# Altium schematic symbol library jlcpcb_resistors_basic.schlib: 291 symbols (part 5 of 5)
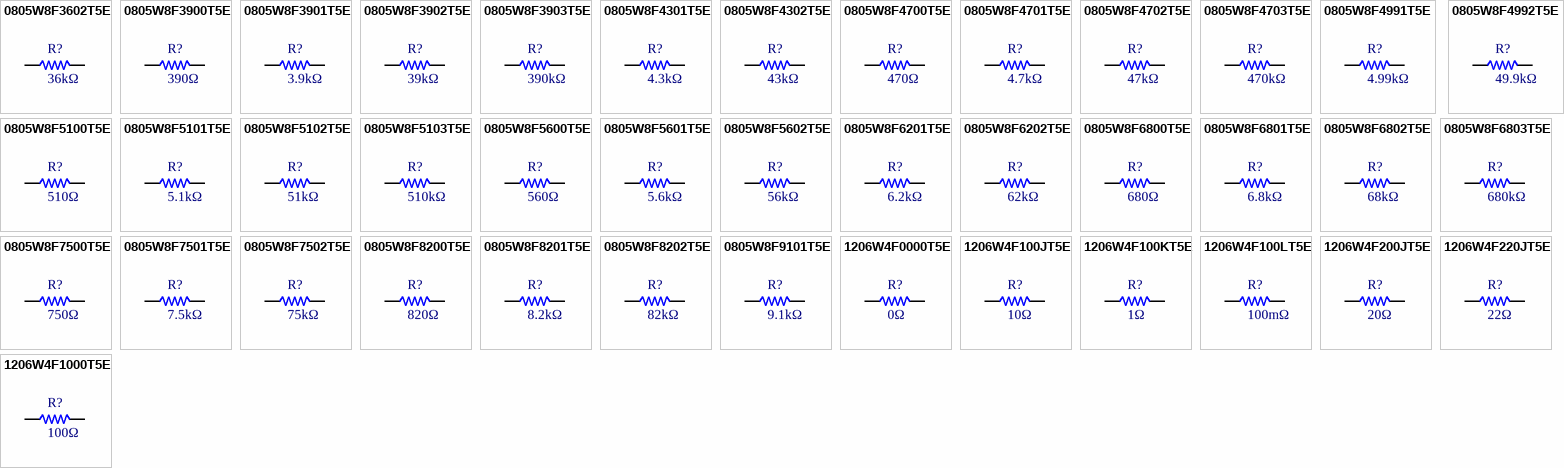
[diagram p11: symbols 0805W8F3602T5E to 1206W4F1000T5E]

## 0805W8F5100T5E
designator R?  Resistance: 510Ω  (hidden comment: *)
Resistor, 510Ω, ±1%, 125mW, 150V, ±100ppm/℃, -55℃~+155℃, SMD 0805; Manufacturer: Uniroyal; Manufacturer Part Number: 0805W8F5100T5E; Supplier 1: LCSC; Supplier Part Number 1: C17734; JLCPCB Part Number: C17734; Power Rating: 125mW; Category: Resistors; Package Size: 0805; JLCPCB Basic Part: Yes; Tolerance: ±1%; Voltage Rating: 150V; Temperature Coefficient: ±100ppm/℃; Temperature Rating: -55℃~+155℃; ComponentLink1Description: Datasheet; ComponentLink1URL: https://datasheet.lcsc.com/lcsc/2206010200_UNI-ROYAL-Uniroyal-Elec-0805W8F5100T5E_C17734.pdf; ComponentLink2Description: JLCPCB Part URL; ComponentLink2URL: https://jlcpcb.com/partdetail/C17734
footprint RES-0805 (0805 (2012M) Capacitor)
pins: 1, 2

## 0805W8F5101T5E
designator R?  Resistance: 5.1kΩ  (hidden comment: *)
Resistor, 5.1kΩ, ±1%, 125mW, 150V, ±100ppm/℃, -55℃~+155℃, SMD 0805; Manufacturer: Uniroyal; Manufacturer Part Number: 0805W8F5101T5E; Supplier 1: LCSC; Supplier Part Number 1: C27834; JLCPCB Part Number: C27834; Power Rating: 125mW; Category: Resistors; Package Size: 0805; JLCPCB Basic Part: Yes; Tolerance: ±1%; Voltage Rating: 150V; Temperature Coefficient: ±100ppm/℃; Temperature Rating: -55℃~+155℃; ComponentLink1Description: Datasheet; ComponentLink1URL: https://datasheet.lcsc.com/lcsc/2206010030_UNI-ROYAL-Uniroyal-Elec-0805W8F5101T5E_C27834.pdf; ComponentLink2Description: JLCPCB Part URL; ComponentLink2URL: https://jlcpcb.com/partdetail/C27834
footprint RES-0805 (0805 (2012M) Capacitor)
pins: 1, 2

## 0805W8F5102T5E
designator R?  Resistance: 51kΩ  (hidden comment: *)
Resistor, 51kΩ, ±1%, 125mW, 150V, ±100ppm/℃, -55℃~+155℃, SMD 0805; Manufacturer: Uniroyal; Manufacturer Part Number: 0805W8F5102T5E; Supplier 1: LCSC; Supplier Part Number 1: C17737; JLCPCB Part Number: C17737; Power Rating: 125mW; Category: Resistors; Package Size: 0805; JLCPCB Basic Part: Yes; Tolerance: ±1%; Voltage Rating: 150V; Temperature Coefficient: ±100ppm/℃; Temperature Rating: -55℃~+155℃; ComponentLink1Description: Datasheet; ComponentLink1URL: https://datasheet.lcsc.com/lcsc/2206010200_UNI-ROYAL-Uniroyal-Elec-0805W8F5102T5E_C17737.pdf; ComponentLink2Description: JLCPCB Part URL; ComponentLink2URL: https://jlcpcb.com/partdetail/C17737
footprint RES-0805 (0805 (2012M) Capacitor)
pins: 1, 2

## 0805W8F5103T5E
designator R?  Resistance: 510kΩ  (hidden comment: *)
Resistor, 510kΩ, ±1%, 125mW, 150V, ±100ppm/℃, -55℃~+155℃, SMD 0805; Manufacturer: Uniroyal; Manufacturer Part Number: 0805W8F5103T5E; Supplier 1: LCSC; Supplier Part Number 1: C17733; JLCPCB Part Number: C17733; Power Rating: 125mW; Category: Resistors; Package Size: 0805; JLCPCB Basic Part: Yes; Tolerance: ±1%; Voltage Rating: 150V; Temperature Coefficient: ±100ppm/℃; Temperature Rating: -55℃~+155℃; ComponentLink1Description: Datasheet; ComponentLink1URL: https://datasheet.lcsc.com/lcsc/2206010200_UNI-ROYAL-Uniroyal-Elec-0805W8F5103T5E_C17733.pdf; ComponentLink2Description: JLCPCB Part URL; ComponentLink2URL: https://jlcpcb.com/partdetail/C17733
footprint RES-0805 (0805 (2012M) Capacitor)
pins: 1, 2

## 0805W8F5600T5E
designator R?  Resistance: 560Ω  (hidden comment: *)
Resistor, 560Ω, ±1%, 125mW, 150V, ±100ppm/℃, -55℃~+155℃, SMD 0805; Manufacturer: Uniroyal; Manufacturer Part Number: 0805W8F5600T5E; Supplier 1: LCSC; Supplier Part Number 1: C28636; JLCPCB Part Number: C28636; Power Rating: 125mW; Category: Resistors; Package Size: 0805; JLCPCB Basic Part: Yes; Tolerance: ±1%; Voltage Rating: 150V; Temperature Coefficient: ±100ppm/℃; Temperature Rating: -55℃~+155℃; ComponentLink1Description: Datasheet; ComponentLink1URL: https://datasheet.lcsc.com/lcsc/2206010030_UNI-ROYAL-Uniroyal-Elec-0805W8F5600T5E_C28636.pdf; ComponentLink2Description: JLCPCB Part URL; ComponentLink2URL: https://jlcpcb.com/partdetail/C28636
footprint RES-0805 (0805 (2012M) Capacitor)
pins: 1, 2

## 0805W8F5601T5E
designator R?  Resistance: 5.6kΩ  (hidden comment: *)
Resistor, 5.6kΩ, ±1%, 125mW, 150V, ±100ppm/℃, -55℃~+155℃, SMD 0805; Manufacturer: Uniroyal; Manufacturer Part Number: 0805W8F5601T5E; Supplier 1: LCSC; Supplier Part Number 1: C4382; JLCPCB Part Number: C4382; Power Rating: 125mW; Category: Resistors; Package Size: 0805; JLCPCB Basic Part: Yes; Tolerance: ±1%; Voltage Rating: 150V; Temperature Coefficient: ±100ppm/℃; Temperature Rating: -55℃~+155℃; ComponentLink1Description: Datasheet; ComponentLink1URL: https://datasheet.lcsc.com/lcsc/2206010216_UNI-ROYAL-Uniroyal-Elec-0805W8F5601T5E_C4382.pdf; ComponentLink2Description: JLCPCB Part URL; ComponentLink2URL: https://jlcpcb.com/partdetail/C4382
footprint RES-0805 (0805 (2012M) Capacitor)
pins: 1, 2

## 0805W8F5602T5E
designator R?  Resistance: 56kΩ  (hidden comment: *)
Resistor, 56kΩ, ±1%, 125mW, 150V, ±100ppm/℃, -55℃~+155℃, SMD 0805; Manufacturer: Uniroyal; Manufacturer Part Number: 0805W8F5602T5E; Supplier 1: LCSC; Supplier Part Number 1: C17756; JLCPCB Part Number: C17756; Power Rating: 125mW; Category: Resistors; Package Size: 0805; JLCPCB Basic Part: Yes; Tolerance: ±1%; Voltage Rating: 150V; Temperature Coefficient: ±100ppm/℃; Temperature Rating: -55℃~+155℃; ComponentLink1Description: Datasheet; ComponentLink1URL: https://datasheet.lcsc.com/lcsc/2206010200_UNI-ROYAL-Uniroyal-Elec-0805W8F5602T5E_C17756.pdf; ComponentLink2Description: JLCPCB Part URL; ComponentLink2URL: https://jlcpcb.com/partdetail/C17756
footprint RES-0805 (0805 (2012M) Capacitor)
pins: 1, 2

## 0805W8F6201T5E
designator R?  Resistance: 6.2kΩ  (hidden comment: *)
Resistor, 6.2kΩ, ±1%, 125mW, 150V, ±100ppm/℃, -55℃~+155℃, SMD 0805; Manufacturer: Uniroyal; Manufacturer Part Number: 0805W8F6201T5E; Supplier 1: LCSC; Supplier Part Number 1: C17767; JLCPCB Part Number: C17767; Power Rating: 125mW; Category: Resistors; Package Size: 0805; JLCPCB Basic Part: Yes; Tolerance: ±1%; Voltage Rating: 150V; Temperature Coefficient: ±100ppm/℃; Temperature Rating: -55℃~+155℃; ComponentLink1Description: Datasheet; ComponentLink1URL: https://datasheet.lcsc.com/lcsc/2205311830_UNI-ROYAL-Uniroyal-Elec-0805W8F6201T5E_C17767.pdf; ComponentLink2Description: JLCPCB Part URL; ComponentLink2URL: https://jlcpcb.com/partdetail/C17767
footprint RES-0805 (0805 (2012M) Capacitor)
pins: 1, 2

## 0805W8F6202T5E
designator R?  Resistance: 62kΩ  (hidden comment: *)
Resistor, 62kΩ, ±1%, 125mW, 150V, ±100ppm/℃, -55℃~+155℃, SMD 0805; Manufacturer: Uniroyal; Manufacturer Part Number: 0805W8F6202T5E; Supplier 1: LCSC; Supplier Part Number 1: C17783; JLCPCB Part Number: C17783; Power Rating: 125mW; Category: Resistors; Package Size: 0805; JLCPCB Basic Part: Yes; Tolerance: ±1%; Voltage Rating: 150V; Temperature Coefficient: ±100ppm/℃; Temperature Rating: -55℃~+155℃; ComponentLink1Description: Datasheet; ComponentLink1URL: https://datasheet.lcsc.com/lcsc/2205311830_UNI-ROYAL-Uniroyal-Elec-0805W8F6202T5E_C17783.pdf; ComponentLink2Description: JLCPCB Part URL; ComponentLink2URL: https://jlcpcb.com/partdetail/C17783
footprint RES-0805 (0805 (2012M) Capacitor)
pins: 1, 2

## 0805W8F6800T5E
designator R?  Resistance: 680Ω  (hidden comment: *)
Resistor, 680Ω, ±1%, 125mW, 150V, ±100ppm/℃, -55℃~+155℃, SMD 0805; Manufacturer: Uniroyal; Manufacturer Part Number: 0805W8F6800T5E; Supplier 1: LCSC; Supplier Part Number 1: C17798; JLCPCB Part Number: C17798; Power Rating: 125mW; Category: Resistors; Package Size: 0805; JLCPCB Basic Part: Yes; Tolerance: ±1%; Voltage Rating: 150V; Temperature Coefficient: ±100ppm/℃; Temperature Rating: -55℃~+155℃; ComponentLink1Description: Datasheet; ComponentLink1URL: https://datasheet.lcsc.com/lcsc/2205311830_UNI-ROYAL-Uniroyal-Elec-0805W8F6800T5E_C17798.pdf; ComponentLink2Description: JLCPCB Part URL; ComponentLink2URL: https://jlcpcb.com/partdetail/C17798
footprint RES-0805 (0805 (2012M) Capacitor)
pins: 1, 2

## 0805W8F6801T5E
designator R?  Resistance: 6.8kΩ  (hidden comment: *)
Resistor, 6.8kΩ, ±1%, 125mW, 150V, ±100ppm/℃, -55℃~+155℃, SMD 0805; Manufacturer: Uniroyal; Manufacturer Part Number: 0805W8F6801T5E; Supplier 1: LCSC; Supplier Part Number 1: C17772; JLCPCB Part Number: C17772; Power Rating: 125mW; Category: Resistors; Package Size: 0805; JLCPCB Basic Part: Yes; Tolerance: ±1%; Voltage Rating: 150V; Temperature Coefficient: ±100ppm/℃; Temperature Rating: -55℃~+155℃; ComponentLink1Description: Datasheet; ComponentLink1URL: https://datasheet.lcsc.com/lcsc/2205311830_UNI-ROYAL-Uniroyal-Elec-0805W8F6801T5E_C17772.pdf; ComponentLink2Description: JLCPCB Part URL; ComponentLink2URL: https://jlcpcb.com/partdetail/C17772
footprint RES-0805 (0805 (2012M) Capacitor)
pins: 1, 2

## 0805W8F6802T5E
designator R?  Resistance: 68kΩ  (hidden comment: *)
Resistor, 68kΩ, ±1%, 125mW, 150V, ±100ppm/℃, -55℃~+155℃, SMD 0805; Manufacturer: Uniroyal; Manufacturer Part Number: 0805W8F6802T5E; Supplier 1: LCSC; Supplier Part Number 1: C17801; JLCPCB Part Number: C17801; Power Rating: 125mW; Category: Resistors; Package Size: 0805; JLCPCB Basic Part: Yes; Tolerance: ±1%; Voltage Rating: 150V; Temperature Coefficient: ±100ppm/℃; Temperature Rating: -55℃~+155℃; ComponentLink1Description: Datasheet; ComponentLink1URL: https://datasheet.lcsc.com/lcsc/2205311830_UNI-ROYAL-Uniroyal-Elec-0805W8F6802T5E_C17801.pdf; ComponentLink2Description: JLCPCB Part URL; ComponentLink2URL: https://jlcpcb.com/partdetail/C17801
footprint RES-0805 (0805 (2012M) Capacitor)
pins: 1, 2

## 0805W8F6803T5E
designator R?  Resistance: 680kΩ  (hidden comment: *)
Resistor, 680kΩ, ±1%, 125mW, 150V, ±100ppm/℃, -55℃~+155℃, SMD 0805; Manufacturer: Uniroyal; Manufacturer Part Number: 0805W8F6803T5E; Supplier 1: LCSC; Supplier Part Number 1: C17797; JLCPCB Part Number: C17797; Power Rating: 125mW; Category: Resistors; Package Size: 0805; JLCPCB Basic Part: Yes; Tolerance: ±1%; Voltage Rating: 150V; Temperature Coefficient: ±100ppm/℃; Temperature Rating: -55℃~+155℃; ComponentLink1Description: Datasheet; ComponentLink1URL: https://datasheet.lcsc.com/lcsc/2205311830_UNI-ROYAL-Uniroyal-Elec-0805W8F6803T5E_C17797.pdf; ComponentLink2Description: JLCPCB Part URL; ComponentLink2URL: https://jlcpcb.com/partdetail/C17797
footprint RES-0805 (0805 (2012M) Capacitor)
pins: 1, 2

## 0805W8F7500T5E
designator R?  Resistance: 750Ω  (hidden comment: *)
Resistor, 750Ω, ±1%, 125mW, 150V, ±100ppm/℃, -55℃~+155℃, SMD 0805; Manufacturer: Uniroyal; Manufacturer Part Number: 0805W8F7500T5E; Supplier 1: LCSC; Supplier Part Number 1: C17818; JLCPCB Part Number: C17818; Power Rating: 125mW; Category: Resistors; Package Size: 0805; JLCPCB Basic Part: Yes; Tolerance: ±1%; Voltage Rating: 150V; Temperature Coefficient: ±100ppm/℃; Temperature Rating: -55℃~+155℃; ComponentLink1Description: Datasheet; ComponentLink1URL: https://datasheet.lcsc.com/lcsc/2205311830_UNI-ROYAL-Uniroyal-Elec-0805W8F7500T5E_C17818.pdf; ComponentLink2Description: JLCPCB Part URL; ComponentLink2URL: https://jlcpcb.com/partdetail/C17818
footprint RES-0805 (0805 (2012M) Capacitor)
pins: 1, 2

## 0805W8F7501T5E
designator R?  Resistance: 7.5kΩ  (hidden comment: *)
Resistor, 7.5kΩ, ±1%, 125mW, 150V, ±100ppm/℃, -55℃~+155℃, SMD 0805; Manufacturer: Uniroyal; Manufacturer Part Number: 0805W8F7501T5E; Supplier 1: LCSC; Supplier Part Number 1: C17807; JLCPCB Part Number: C17807; Power Rating: 125mW; Category: Resistors; Package Size: 0805; JLCPCB Basic Part: Yes; Tolerance: ±1%; Voltage Rating: 150V; Temperature Coefficient: ±100ppm/℃; Temperature Rating: -55℃~+155℃; ComponentLink1Description: Datasheet; ComponentLink1URL: https://datasheet.lcsc.com/lcsc/2205311830_UNI-ROYAL-Uniroyal-Elec-0805W8F7501T5E_C17807.pdf; ComponentLink2Description: JLCPCB Part URL; ComponentLink2URL: https://jlcpcb.com/partdetail/C17807
footprint RES-0805 (0805 (2012M) Capacitor)
pins: 1, 2

## 0805W8F7502T5E
designator R?  Resistance: 75kΩ  (hidden comment: *)
Resistor, 75kΩ, ±1%, 125mW, 150V, ±100ppm/℃, -55℃~+155℃, SMD 0805; Manufacturer: Uniroyal; Manufacturer Part Number: 0805W8F7502T5E; Supplier 1: LCSC; Supplier Part Number 1: C17819; JLCPCB Part Number: C17819; Power Rating: 125mW; Category: Resistors; Package Size: 0805; JLCPCB Basic Part: Yes; Tolerance: ±1%; Voltage Rating: 150V; Temperature Coefficient: ±100ppm/℃; Temperature Rating: -55℃~+155℃; ComponentLink1Description: Datasheet; ComponentLink1URL: https://datasheet.lcsc.com/lcsc/2205311830_UNI-ROYAL-Uniroyal-Elec-0805W8F7502T5E_C17819.pdf; ComponentLink2Description: JLCPCB Part URL; ComponentLink2URL: https://jlcpcb.com/partdetail/C17819
footprint RES-0805 (0805 (2012M) Capacitor)
pins: 1, 2

## 0805W8F8200T5E
designator R?  Resistance: 820Ω  (hidden comment: *)
Resistor, 820Ω, ±1%, 125mW, 150V, ±100ppm/℃, -55℃~+155℃, SMD 0805; Manufacturer: Uniroyal; Manufacturer Part Number: 0805W8F8200T5E; Supplier 1: LCSC; Supplier Part Number 1: C17837; JLCPCB Part Number: C17837; Power Rating: 125mW; Category: Resistors; Package Size: 0805; JLCPCB Basic Part: Yes; Tolerance: ±1%; Voltage Rating: 150V; Temperature Coefficient: ±100ppm/℃; Temperature Rating: -55℃~+155℃; ComponentLink1Description: Datasheet; ComponentLink1URL: https://datasheet.lcsc.com/lcsc/2205311830_UNI-ROYAL-Uniroyal-Elec-0805W8F8200T5E_C17837.pdf; ComponentLink2Description: JLCPCB Part URL; ComponentLink2URL: https://jlcpcb.com/partdetail/C17837
footprint RES-0805 (0805 (2012M) Capacitor)
pins: 1, 2

## 0805W8F8201T5E
designator R?  Resistance: 8.2kΩ  (hidden comment: *)
Resistor, 8.2kΩ, ±1%, 125mW, 150V, ±100ppm/℃, -55℃~+155℃, SMD 0805; Manufacturer: Uniroyal; Manufacturer Part Number: 0805W8F8201T5E; Supplier 1: LCSC; Supplier Part Number 1: C17828; JLCPCB Part Number: C17828; Power Rating: 125mW; Category: Resistors; Package Size: 0805; JLCPCB Basic Part: Yes; Tolerance: ±1%; Voltage Rating: 150V; Temperature Coefficient: ±100ppm/℃; Temperature Rating: -55℃~+155℃; ComponentLink1Description: Datasheet; ComponentLink1URL: https://datasheet.lcsc.com/lcsc/2205311830_UNI-ROYAL-Uniroyal-Elec-0805W8F8201T5E_C17828.pdf; ComponentLink2Description: JLCPCB Part URL; ComponentLink2URL: https://jlcpcb.com/partdetail/C17828
footprint RES-0805 (0805 (2012M) Capacitor)
pins: 1, 2

## 0805W8F8202T5E
designator R?  Resistance: 82kΩ  (hidden comment: *)
Resistor, 82kΩ, ±1%, 125mW, 150V, ±100ppm/℃, -55℃~+155℃, SMD 0805; Manufacturer: Uniroyal; Manufacturer Part Number: 0805W8F8202T5E; Supplier 1: LCSC; Supplier Part Number 1: C17840; JLCPCB Part Number: C17840; Power Rating: 125mW; Category: Resistors; Package Size: 0805; JLCPCB Basic Part: Yes; Tolerance: ±1%; Voltage Rating: 150V; Temperature Coefficient: ±100ppm/℃; Temperature Rating: -55℃~+155℃; ComponentLink1Description: Datasheet; ComponentLink1URL: https://datasheet.lcsc.com/lcsc/2205311830_UNI-ROYAL-Uniroyal-Elec-0805W8F8202T5E_C17840.pdf; ComponentLink2Description: JLCPCB Part URL; ComponentLink2URL: https://jlcpcb.com/partdetail/C17840
footprint RES-0805 (0805 (2012M) Capacitor)
pins: 1, 2

## 0805W8F9101T5E
designator R?  Resistance: 9.1kΩ  (hidden comment: *)
Resistor, 9.1kΩ, ±1%, 125mW, 150V, ±100ppm/℃, -55℃~+155℃, SMD 0805; Manufacturer: Uniroyal; Manufacturer Part Number: 0805W8F9101T5E; Supplier 1: LCSC; Supplier Part Number 1: C17855; JLCPCB Part Number: C17855; Power Rating: 125mW; Category: Resistors; Package Size: 0805; JLCPCB Basic Part: Yes; Tolerance: ±1%; Voltage Rating: 150V; Temperature Coefficient: ±100ppm/℃; Temperature Rating: -55℃~+155℃; ComponentLink1Description: Datasheet; ComponentLink1URL: https://datasheet.lcsc.com/lcsc/2206010200_UNI-ROYAL-Uniroyal-Elec-0805W8F9101T5E_C17855.pdf; ComponentLink2Description: JLCPCB Part URL; ComponentLink2URL: https://jlcpcb.com/partdetail/C17855
footprint RES-0805 (0805 (2012M) Capacitor)
pins: 1, 2

## 1206W4F0000T5E
designator R?  Resistance: 0Ω  (hidden comment: *)
Resistor, 0Ω, ±1%, 250mW, 200V, ±800ppm/℃, -55℃~+155℃, SMD 1206; Manufacturer: Uniroyal; Manufacturer Part Number: 1206W4F0000T5E; Supplier 1: LCSC; Supplier Part Number 1: C17888; JLCPCB Part Number: C17888; Power Rating: 250mW; Category: Resistors; Package Size: 1206; JLCPCB Basic Part: Yes; Tolerance: ±1%; Voltage Rating: 200V; Temperature Coefficient: ±800ppm/℃; Temperature Rating: -55℃~+155℃; ComponentLink1Description: Datasheet; ComponentLink1URL: https://datasheet.lcsc.com/lcsc/2206010200_UNI-ROYAL-Uniroyal-Elec-1206W4F0000T5E_C17888.pdf; ComponentLink2Description: JLCPCB Part URL; ComponentLink2URL: https://jlcpcb.com/partdetail/C17888
footprint RES-1206 (1206 (3216M) Capacitor)
pins: 1, 2

## 1206W4F100JT5E
designator R?  Resistance: 10Ω  (hidden comment: *)
Resistor, 10Ω, ±1%, 250mW, 200V, ±400ppm/℃, -55℃~+155℃, SMD 1206; Manufacturer: Uniroyal; Manufacturer Part Number: 1206W4F100JT5E; Supplier 1: LCSC; Supplier Part Number 1: C17903; JLCPCB Part Number: C17903; Power Rating: 250mW; Category: Resistors; Package Size: 1206; JLCPCB Basic Part: Yes; Tolerance: ±1%; Voltage Rating: 200V; Temperature Coefficient: ±400ppm/℃; Temperature Rating: -55℃~+155℃; ComponentLink1Description: Datasheet; ComponentLink1URL: https://datasheet.lcsc.com/lcsc/2206010145_UNI-ROYAL-Uniroyal-Elec-1206W4F100JT5E_C17903.pdf; ComponentLink2Description: JLCPCB Part URL; ComponentLink2URL: https://jlcpcb.com/partdetail/C17903
footprint RES-1206 (1206 (3216M) Capacitor)
pins: 1, 2

## 1206W4F100KT5E
designator R?  Resistance: 1Ω  (hidden comment: *)
Resistor, 1Ω, ±1%, 250mW, 200V, ±800ppm/℃, -55℃~+155℃, SMD 1206; Manufacturer: Uniroyal; Manufacturer Part Number: 1206W4F100KT5E; Supplier 1: LCSC; Supplier Part Number 1: C17928; JLCPCB Part Number: C17928; Power Rating: 250mW; Category: Resistors; Package Size: 1206; JLCPCB Basic Part: Yes; Tolerance: ±1%; Voltage Rating: 200V; Temperature Coefficient: ±800ppm/℃; Temperature Rating: -55℃~+155℃; ComponentLink1Description: Datasheet; ComponentLink1URL: https://datasheet.lcsc.com/lcsc/2206010145_UNI-ROYAL-Uniroyal-Elec-1206W4F100KT5E_C17928.pdf; ComponentLink2Description: JLCPCB Part URL; ComponentLink2URL: https://jlcpcb.com/partdetail/C17928
footprint RES-1206 (1206 (3216M) Capacitor)
pins: 1, 2

## 1206W4F100LT5E
designator R?  Resistance: 100mΩ  (hidden comment: *)
Resistor, 100mΩ, ±1%, 250mW, 200V, ±800ppm/℃, -55℃~+155℃, SMD 1206; Manufacturer: Uniroyal; Manufacturer Part Number: 1206W4F100LT5E; Supplier 1: LCSC; Supplier Part Number 1: C25334; JLCPCB Part Number: C25334; Power Rating: 250mW; Category: Resistors; Package Size: 1206; JLCPCB Basic Part: Yes; Tolerance: ±1%; Voltage Rating: 200V; Temperature Coefficient: ±800ppm/℃; Temperature Rating: -55℃~+155℃; ComponentLink1Description: Datasheet; ComponentLink1URL: https://datasheet.lcsc.com/lcsc/2205311900_UNI-ROYAL-Uniroyal-Elec-1206W4F100LT5E_C25334.pdf; ComponentLink2Description: JLCPCB Part URL; ComponentLink2URL: https://jlcpcb.com/partdetail/C25334
footprint RES-1206 (1206 (3216M) Capacitor)
pins: 1, 2

## 1206W4F200JT5E
designator R?  Resistance: 20Ω  (hidden comment: *)
Resistor, 20Ω, ±1%, 250mW, 200V, ±100ppm/℃, -55℃~+155℃, SMD 1206; Manufacturer: Uniroyal; Manufacturer Part Number: 1206W4F200JT5E; Supplier 1: LCSC; Supplier Part Number 1: C17955; JLCPCB Part Number: C17955; Power Rating: 250mW; Category: Resistors; Package Size: 1206; JLCPCB Basic Part: Yes; Tolerance: ±1%; Voltage Rating: 200V; Temperature Coefficient: ±100ppm/℃; Temperature Rating: -55℃~+155℃; ComponentLink1Description: Datasheet; ComponentLink1URL: https://datasheet.lcsc.com/lcsc/2206010145_UNI-ROYAL-Uniroyal-Elec-1206W4F200JT5E_C17955.pdf; ComponentLink2Description: JLCPCB Part URL; ComponentLink2URL: https://jlcpcb.com/partdetail/C17955
footprint RES-1206 (1206 (3216M) Capacitor)
pins: 1, 2

## 1206W4F220JT5E
designator R?  Resistance: 22Ω  (hidden comment: *)
Resistor, 22Ω, ±1%, 250mW, 200V, ±100ppm/℃, -55℃~+155℃, SMD 1206; Manufacturer: Uniroyal; Manufacturer Part Number: 1206W4F220JT5E; Supplier 1: LCSC; Supplier Part Number 1: C17958; JLCPCB Part Number: C17958; Power Rating: 250mW; Category: Resistors; Package Size: 1206; JLCPCB Basic Part: Yes; Tolerance: ±1%; Voltage Rating: 200V; Temperature Coefficient: ±100ppm/℃; Temperature Rating: -55℃~+155℃; ComponentLink1Description: Datasheet; ComponentLink1URL: https://datasheet.lcsc.com/lcsc/2206010145_UNI-ROYAL-Uniroyal-Elec-1206W4F220JT5E_C17958.pdf; ComponentLink2Description: JLCPCB Part URL; ComponentLink2URL: https://jlcpcb.com/partdetail/C17958
footprint RES-1206 (1206 (3216M) Capacitor)
pins: 1, 2

## 1206W4F1000T5E
designator R?  Resistance: 100Ω  (hidden comment: *)
Resistor, 100Ω, ±1%, 250mW, 200V, ±100ppm/℃, -55℃~+155℃, SMD 1206; Manufacturer: Uniroyal; Manufacturer Part Number: 1206W4F1000T5E; Supplier 1: LCSC; Supplier Part Number 1: C17901; JLCPCB Part Number: C17901; Power Rating: 250mW; Category: Resistors; Package Size: 1206; JLCPCB Basic Part: Yes; Tolerance: ±1%; Voltage Rating: 200V; Temperature Coefficient: ±100ppm/℃; Temperature Rating: -55℃~+155℃; ComponentLink1Description: Datasheet; ComponentLink1URL: https://datasheet.lcsc.com/lcsc/2206010145_UNI-ROYAL-Uniroyal-Elec-1206W4F1000T5E_C17901.pdf; ComponentLink2Description: JLCPCB Part URL; ComponentLink2URL: https://jlcpcb.com/partdetail/C17901
footprint RES-1206 (1206 (3216M) Capacitor)
pins: 1, 2

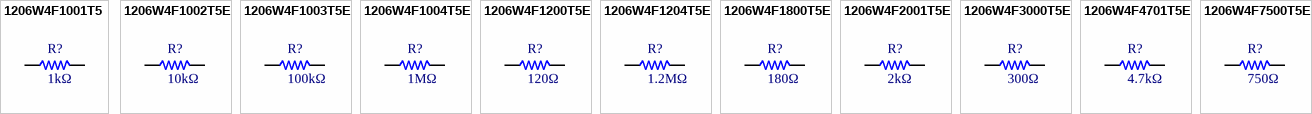
[diagram p7: symbols 1206W4F1001T5 to 1206W4F7500T5E]

## 1206W4F1001T5
designator R?  Resistance: 1kΩ  (hidden comment: *)
Resistor, 1kΩ, ±1%, 250mW, 200V, -55℃~+155℃, SMD 1206; Manufacturer: Uniroyal; Manufacturer Part Number: 1206W4F1001T5; Supplier 1: LCSC; Supplier Part Number 1: C4410; JLCPCB Part Number: C4410; Power Rating: 250mW; Category: Resistors; Package Size: 1206; JLCPCB Basic Part: Yes; Tolerance: ±1%; Voltage Rating: 200V; Temperature Rating: -55℃~+155℃; ComponentLink1Description: Datasheet; ComponentLink1URL: https://datasheet.lcsc.com/lcsc/2206010216_UNI-ROYAL-Uniroyal-Elec-1206W4F1001T5_C4410.pdf; ComponentLink2Description: JLCPCB Part URL; ComponentLink2URL: https://jlcpcb.com/partdetail/C4410
footprint RES-1206 (1206 (3216M) Capacitor)
pins: 1, 2

## 1206W4F1002T5E
designator R?  Resistance: 10kΩ  (hidden comment: *)
Resistor, 10kΩ, ±1%, 250mW, 200V, ±100ppm/℃, -55℃~+155℃, SMD 1206; Manufacturer: Uniroyal; Manufacturer Part Number: 1206W4F1002T5E; Supplier 1: LCSC; Supplier Part Number 1: C17902; JLCPCB Part Number: C17902; Power Rating: 250mW; Category: Resistors; Package Size: 1206; JLCPCB Basic Part: Yes; Tolerance: ±1%; Voltage Rating: 200V; Temperature Coefficient: ±100ppm/℃; Temperature Rating: -55℃~+155℃; ComponentLink1Description: Datasheet; ComponentLink1URL: https://datasheet.lcsc.com/lcsc/2206010145_UNI-ROYAL-Uniroyal-Elec-1206W4F1002T5E_C17902.pdf; ComponentLink2Description: JLCPCB Part URL; ComponentLink2URL: https://jlcpcb.com/partdetail/C17902
footprint RES-1206 (1206 (3216M) Capacitor)
pins: 1, 2

## 1206W4F1003T5E
designator R?  Resistance: 100kΩ  (hidden comment: *)
Resistor, 100kΩ, ±1%, 250mW, 200V, ±100ppm/℃, -55℃~+155℃, SMD 1206; Manufacturer: Uniroyal; Manufacturer Part Number: 1206W4F1003T5E; Supplier 1: LCSC; Supplier Part Number 1: C17900; JLCPCB Part Number: C17900; Power Rating: 250mW; Category: Resistors; Package Size: 1206; JLCPCB Basic Part: Yes; Tolerance: ±1%; Voltage Rating: 200V; Temperature Coefficient: ±100ppm/℃; Temperature Rating: -55℃~+155℃; ComponentLink1Description: Datasheet; ComponentLink1URL: https://datasheet.lcsc.com/lcsc/2206010145_UNI-ROYAL-Uniroyal-Elec-1206W4F1003T5E_C17900.pdf; ComponentLink2Description: JLCPCB Part URL; ComponentLink2URL: https://jlcpcb.com/partdetail/C17900
footprint RES-1206 (1206 (3216M) Capacitor)
pins: 1, 2

## 1206W4F1004T5E
designator R?  Resistance: 1MΩ  (hidden comment: *)
Resistor, 1MΩ, ±1%, 250mW, 200V, ±100ppm/℃, -55℃~+155℃, SMD 1206; Manufacturer: Uniroyal; Manufacturer Part Number: 1206W4F1004T5E; Supplier 1: LCSC; Supplier Part Number 1: C17927; JLCPCB Part Number: C17927; Power Rating: 250mW; Category: Resistors; Package Size: 1206; JLCPCB Basic Part: Yes; Tolerance: ±1%; Voltage Rating: 200V; Temperature Coefficient: ±100ppm/℃; Temperature Rating: -55℃~+155℃; ComponentLink1Description: Datasheet; ComponentLink1URL: https://datasheet.lcsc.com/lcsc/2206010145_UNI-ROYAL-Uniroyal-Elec-1206W4F1004T5E_C17927.pdf; ComponentLink2Description: JLCPCB Part URL; ComponentLink2URL: https://jlcpcb.com/partdetail/C17927
footprint RES-1206 (1206 (3216M) Capacitor)
pins: 1, 2

## 1206W4F1200T5E
designator R?  Resistance: 120Ω  (hidden comment: *)
Resistor, 120Ω, ±1%, 250mW, 200V, ±100ppm/℃, -55℃~+155℃, SMD 1206; Manufacturer: Uniroyal; Manufacturer Part Number: 1206W4F1200T5E; Supplier 1: LCSC; Supplier Part Number 1: C17909; JLCPCB Part Number: C17909; Power Rating: 250mW; Category: Resistors; Package Size: 1206; JLCPCB Basic Part: Yes; Tolerance: ±1%; Voltage Rating: 200V; Temperature Coefficient: ±100ppm/℃; Temperature Rating: -55℃~+155℃; ComponentLink1Description: Datasheet; ComponentLink1URL: https://datasheet.lcsc.com/lcsc/2206010145_UNI-ROYAL-Uniroyal-Elec-1206W4F1200T5E_C17909.pdf; ComponentLink2Description: JLCPCB Part URL; ComponentLink2URL: https://jlcpcb.com/partdetail/C17909
footprint RES-1206 (1206 (3216M) Capacitor)
pins: 1, 2

## 1206W4F1204T5E
designator R?  Resistance: 1.2MΩ  (hidden comment: *)
Resistor, 1.2MΩ, ±1%, 250mW, 200V, ±100ppm/℃, -55℃~+155℃, SMD 1206; Manufacturer: Uniroyal; Manufacturer Part Number: 1206W4F1204T5E; Supplier 1: LCSC; Supplier Part Number 1: C22107; JLCPCB Part Number: C22107; Power Rating: 250mW; Category: Resistors; Package Size: 1206; JLCPCB Basic Part: Yes; Tolerance: ±1%; Voltage Rating: 200V; Temperature Coefficient: ±100ppm/℃; Temperature Rating: -55℃~+155℃; ComponentLink1Description: Datasheet; ComponentLink1URL: https://datasheet.lcsc.com/lcsc/2206010130_UNI-ROYAL-Uniroyal-Elec-1206W4F1204T5E_C22107.pdf; ComponentLink2Description: JLCPCB Part URL; ComponentLink2URL: https://jlcpcb.com/partdetail/C22107
footprint RES-1206 (1206 (3216M) Capacitor)
pins: 1, 2

## 1206W4F1800T5E
designator R?  Resistance: 180Ω  (hidden comment: *)
Resistor, 180Ω, ±1%, 250mW, 200V, ±100ppm/℃, -55℃~+155℃, SMD 1206; Manufacturer: Uniroyal; Manufacturer Part Number: 1206W4F1800T5E; Supplier 1: LCSC; Supplier Part Number 1: C17924; JLCPCB Part Number: C17924; Power Rating: 250mW; Category: Resistors; Package Size: 1206; JLCPCB Basic Part: Yes; Tolerance: ±1%; Voltage Rating: 200V; Temperature Coefficient: ±100ppm/℃; Temperature Rating: -55℃~+155℃; ComponentLink1Description: Datasheet; ComponentLink1URL: https://datasheet.lcsc.com/lcsc/2206010145_UNI-ROYAL-Uniroyal-Elec-1206W4F1800T5E_C17924.pdf; ComponentLink2Description: JLCPCB Part URL; ComponentLink2URL: https://jlcpcb.com/partdetail/C17924
footprint RES-1206 (1206 (3216M) Capacitor)
pins: 1, 2

## 1206W4F2001T5E
designator R?  Resistance: 2kΩ  (hidden comment: *)
Resistor, 2kΩ, ±1%, 250mW, 200V, ±100ppm/℃, -55℃~+155℃, SMD 1206; Manufacturer: Uniroyal; Manufacturer Part Number: 1206W4F2001T5E; Supplier 1: LCSC; Supplier Part Number 1: C17944; JLCPCB Part Number: C17944; Power Rating: 250mW; Category: Resistors; Package Size: 1206; JLCPCB Basic Part: Yes; Tolerance: ±1%; Voltage Rating: 200V; Temperature Coefficient: ±100ppm/℃; Temperature Rating: -55℃~+155℃; ComponentLink1Description: Datasheet; ComponentLink1URL: https://datasheet.lcsc.com/lcsc/2206010145_UNI-ROYAL-Uniroyal-Elec-1206W4F2001T5E_C17944.pdf; ComponentLink2Description: JLCPCB Part URL; ComponentLink2URL: https://jlcpcb.com/partdetail/C17944
footprint RES-1206 (1206 (3216M) Capacitor)
pins: 1, 2

## 1206W4F3000T5E
designator R?  Resistance: 300Ω  (hidden comment: *)
Resistor, 300Ω, ±1%, 250mW, 200V, ±100ppm/℃, -55℃~+155℃, SMD 1206; Manufacturer: Uniroyal; Manufacturer Part Number: 1206W4F3000T5E; Supplier 1: LCSC; Supplier Part Number 1: C17887; JLCPCB Part Number: C17887; Power Rating: 250mW; Category: Resistors; Package Size: 1206; JLCPCB Basic Part: Yes; Tolerance: ±1%; Voltage Rating: 200V; Temperature Coefficient: ±100ppm/℃; Temperature Rating: -55℃~+155℃; ComponentLink1Description: Datasheet; ComponentLink1URL: https://datasheet.lcsc.com/lcsc/2206010200_UNI-ROYAL-Uniroyal-Elec-1206W4F3000T5E_C17887.pdf; ComponentLink2Description: JLCPCB Part URL; ComponentLink2URL: https://jlcpcb.com/partdetail/C17887
footprint RES-1206 (1206 (3216M) Capacitor)
pins: 1, 2

## 1206W4F4701T5E
designator R?  Resistance: 4.7kΩ  (hidden comment: *)
Resistor, 4.7kΩ, ±1%, 250mW, 200V, ±100ppm/℃, -55℃~+155℃, SMD 1206; Manufacturer: Uniroyal; Manufacturer Part Number: 1206W4F4701T5E; Supplier 1: LCSC; Supplier Part Number 1: C17936; JLCPCB Part Number: C17936; Power Rating: 250mW; Category: Resistors; Package Size: 1206; JLCPCB Basic Part: Yes; Tolerance: ±1%; Voltage Rating: 200V; Temperature Coefficient: ±100ppm/℃; Temperature Rating: -55℃~+155℃; ComponentLink1Description: Datasheet; ComponentLink1URL: https://datasheet.lcsc.com/lcsc/2206010145_UNI-ROYAL-Uniroyal-Elec-1206W4F4701T5E_C17936.pdf; ComponentLink2Description: JLCPCB Part URL; ComponentLink2URL: https://jlcpcb.com/partdetail/C17936
footprint RES-1206 (1206 (3216M) Capacitor)
pins: 1, 2

## 1206W4F7500T5E
designator R?  Resistance: 750Ω  (hidden comment: *)
Resistor, 750Ω, ±1%, 250mW, 200V, ±100ppm/℃, -55℃~+155℃, SMD 1206; Manufacturer: Uniroyal; Manufacturer Part Number: 1206W4F7500T5E; Supplier 1: LCSC; Supplier Part Number 1: C17985; JLCPCB Part Number: C17985; Power Rating: 250mW; Category: Resistors; Package Size: 1206; JLCPCB Basic Part: Yes; Tolerance: ±1%; Voltage Rating: 200V; Temperature Coefficient: ±100ppm/℃; Temperature Rating: -55℃~+155℃; ComponentLink1Description: Datasheet; ComponentLink1URL: https://datasheet.lcsc.com/lcsc/2206010145_UNI-ROYAL-Uniroyal-Elec-1206W4F7500T5E_C17985.pdf; ComponentLink2Description: JLCPCB Part URL; ComponentLink2URL: https://jlcpcb.com/partdetail/C17985
footprint RES-1206 (1206 (3216M) Capacitor)
pins: 1, 2